# EAGLE library part SST25VF016B (library ds_ic_memory)
16 Mbit SPI Serial Flash
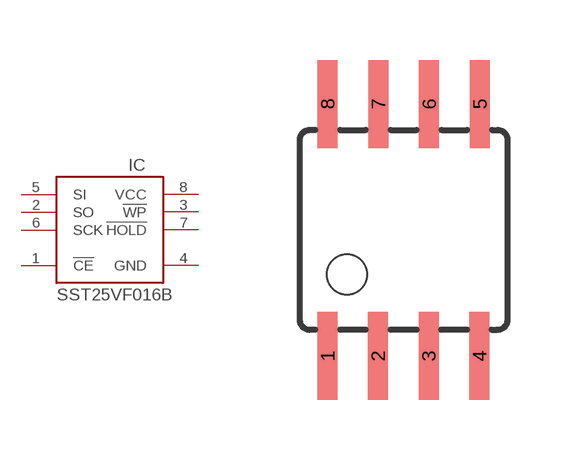
[diagram p9: symbol with the pads of SOIC8; footprint SOIC8]

Designator prefix IC

## SST25VF016B  [SOIC8]
1  !CE
2  SO
3  !WP
4  GND
5  SI
6  SCK
7  !HOLD
8  VCC

## Footprint SOIC8 (pad centres in mm)
smd 0.5 x 2.2: 1 -1.905,-3.154; 2 -0.645,-3.154; 3 0.625,-3.154; 4 1.895,-3.154; 5 1.905,3.154; 6 0.635,3.154; 7 -0.635,3.154; 8 -1.905,3.154